# Altium schematic symbol library Schlib_Everanalog.SchLib: 2 symbols
Pins are listed as number, name and electrical type; pins without a type are passive.

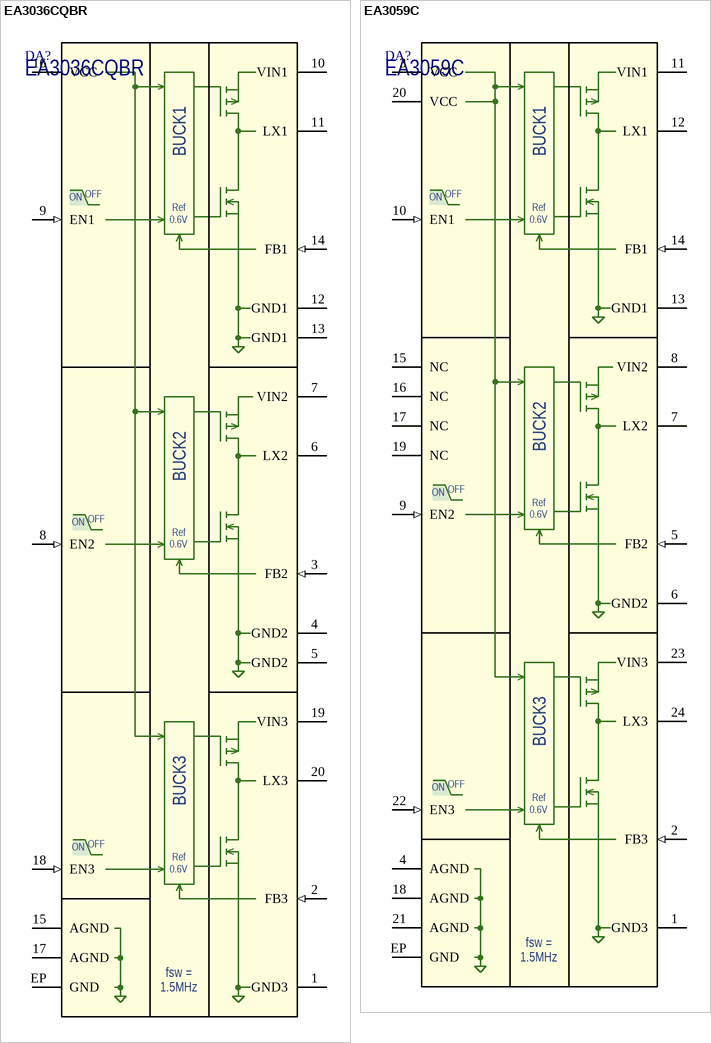
[diagram p0: symbols EA3036CQBR to EA3059C]

## EA3036CQBR
designator DA?
3CH Power Management IC; Manufacturer: Everanalog; Package: QFN-20 (3x3); Part Number: EA3036CQBR
footprint QFN20_EA3036C (Power QFN 3mm x 3mm, 0.4mm pitch)
pins: 1 GND3 (power), 2 FB3 (in), 3 FB2 (in), 4 GND2 (power), 5 GND2 (power), 6 LX2, 7 VIN2 (power), 8 EN2 (in), 9 EN1 (in), 10 VIN1 (power), 11 LX1, 12 GND1 (power), 13 GND1 (power), 14 FB1 (in), 15 AGND (power), 16 VCC (power), 17 AGND (power), 18 EN3 (in), 19 VIN3 (power), 20 LX3, EP GND (power)
text: BUCK1; OFF; ON; Ref; 0.6V; BUCK2; BUCK3; fsw =; 1.5MHz

## EA3059C
designator DA?
3CH Power Management IC; Manufacturer: Everanalog; Package: QFN-24 (4x4); Part Number: EA3059C
footprint QFN24_EA3059C (Power QFN 4mm x 4mm, 0.5mm pitch)
pins: 1 GND3 (power), 2 FB3 (in), 3 VCC (power), 4 AGND (power), 5 FB2 (in), 6 GND2 (power), 7 LX2, 8 VIN2 (power), 9 EN2 (in), 10 EN1 (in), 11 VIN1 (power), 12 LX1, 13 GND1 (power), 14 FB1 (in), 15 NC (hiz), 16 NC (hiz), 17 NC (hiz), 18 AGND (power), 19 NC (hiz), 20 VCC (power), 21 AGND (power), 22 EN3 (in), 23 VIN3 (power), 24 LX3, EP GND (power)
text: BUCK1; OFF; ON; Ref; 0.6V; BUCK2; BUCK3; fsw =; 1.5MHz